# EAGLE library part 691309510003 (library Terminal_Blocks_Connectors_rev15e)
WR-TBL Serie 3095 - 5.08mm Reversed Gender Horizontal PCB Header , 3 pins=>Code : Con_TBL_Pluggable_5.08_PCB_THT_Simple_H_691309510003 <http://katalog.we-online.de/media/images/eican/Con_TBL_Pluggable_5.08_PCB_THT_Simple_H_6913095100xx_pf2.jpg> Details see: http://katalog.we-online.de/en/em/691_309_510_0xx Created 2014-06-25, Karrer Zheng 2014 (C) Würth Elektronik
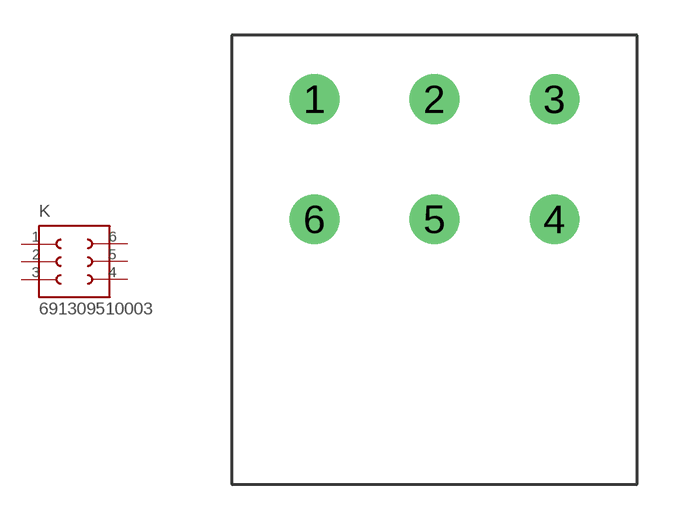
[diagram p176: symbol with the pads of 691309510003; footprint 691309510003]

Designator prefix K

## 691309510003  [691309510003]
1  1  pas
2  2  pas
3  3  pas
4  4  pas
5  5  pas
6  6  pas

## Footprint 691309510003 (pad centres in mm)
WR-TBL Serie 3075 - 5.08mm Reversed Gender Vertiacal PCB Header , 3 pins
drill 1.4: 1 -5.08,5.08; 2 0,5.08; 3 5.08,5.08; 4 5.08,0; 5 0,0; 6 -5.08,0